# Altium integrated library ECE295-Capacitors-TH.IntLib: 48 symbols
Pins are listed as number, name and electrical type; pins without a type are passive.

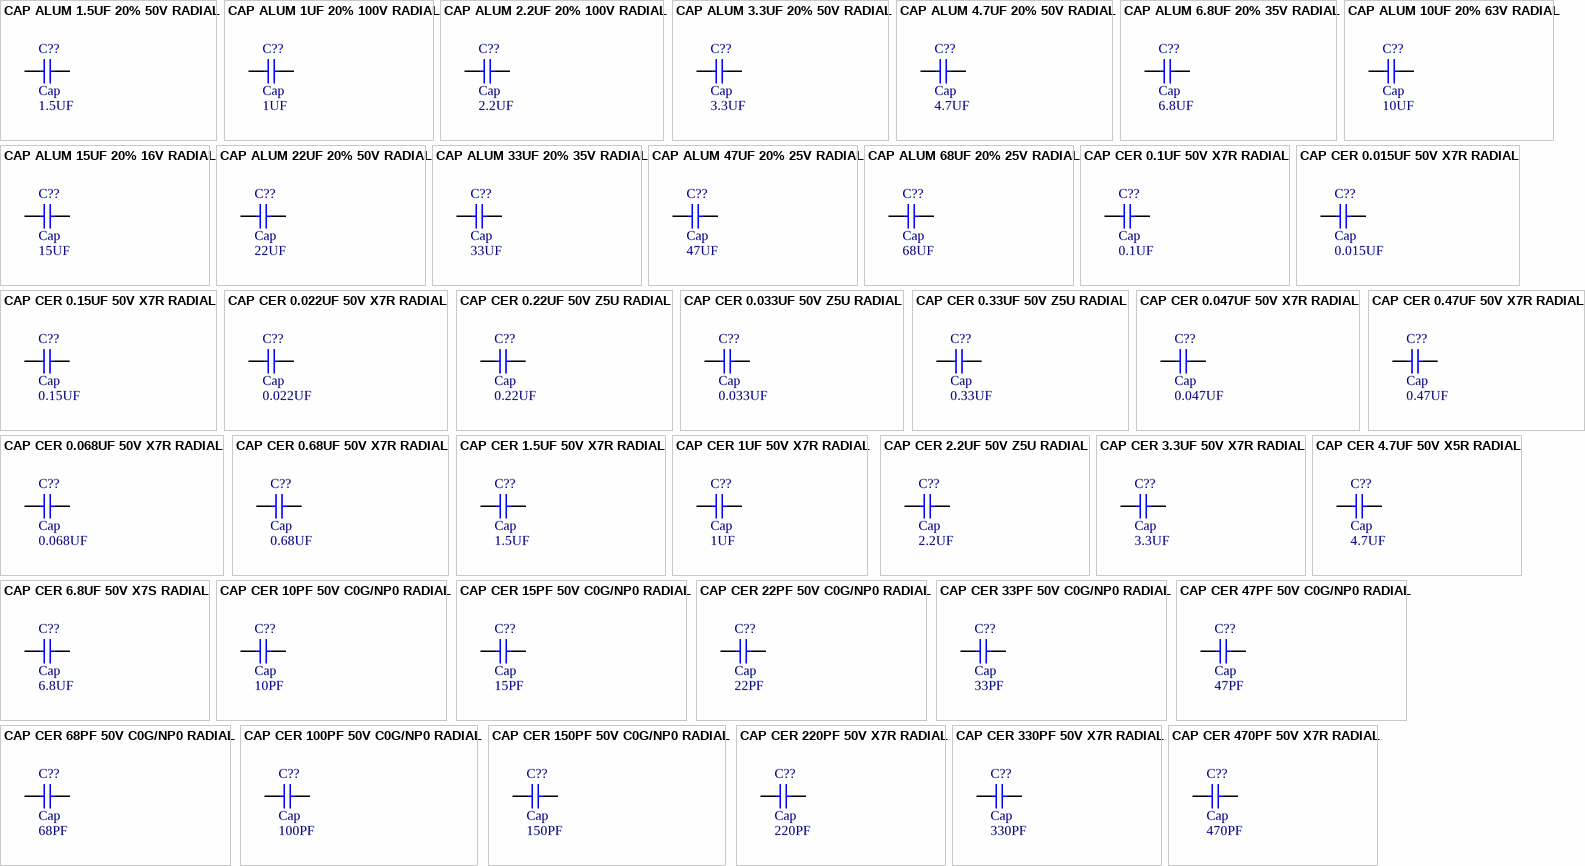
[diagram p0: symbols CAP ALUM 1.5UF 20% 50V RADIAL to CAP CER 470PF 50V X7R RADIAL]

## CAP ALUM 1.5UF 20% 50V RADIAL
designator C??, comment Cap  value 1.5UF
Capacitor; Manufacturer Part Number: EEA-GA1H1R5H; Designator: C?; Voltage Rating: 50V; Published: 8-Jun-2000; LatestRevisionDate: 17-Jul-2002; LatestRevisionNote: Re-released for DXP Platform.; Publisher: Altium Limited
simulation model CAP (Capacitor)
signal-integrity model Cap
footprint RADIAL-0.1
pins: 1, 2

## CAP ALUM 1UF 20% 100V RADIAL
designator C??, comment Cap  value 1UF
Capacitor; Manufacturer Part Number: ESE105M100AC3EA; Designator: C?; Voltage Rating: 100V; Published: 8-Jun-2000; LatestRevisionDate: 17-Jul-2002; LatestRevisionNote: Re-released for DXP Platform.; Publisher: Altium Limited
simulation model CAP (Capacitor)
signal-integrity model Cap
footprint RADIAL-0.1
pins: 1, 2

## CAP ALUM 2.2UF 20% 100V RADIAL
designator C??, comment Cap  value 2.2UF
Capacitor; Manufacturer Part Number: ESK225M100AC3AA; Designator: C?; Voltage Rating: 100V; Published: 8-Jun-2000; LatestRevisionDate: 17-Jul-2002; LatestRevisionNote: Re-released for DXP Platform.; Publisher: Altium Limited
simulation model CAP (Capacitor)
signal-integrity model Cap
footprint RADIAL-0.1
pins: 1, 2

## CAP ALUM 3.3UF 20% 50V RADIAL
designator C??, comment Cap  value 3.3UF
Capacitor; Manufacturer Part Number: ESK335M050AC3AA; Designator: C?; Voltage Rating: 50V; Published: 8-Jun-2000; LatestRevisionDate: 17-Jul-2002; LatestRevisionNote: Re-released for DXP Platform.; Publisher: Altium Limited
simulation model CAP (Capacitor)
signal-integrity model Cap
footprint RADIAL-0.1
pins: 1, 2

## CAP ALUM 4.7UF 20% 50V RADIAL
designator C??, comment Cap  value 4.7UF
Capacitor; Manufacturer Part Number: ESH475M050AC3AA; Designator: C?; Voltage Rating: 50V; Published: 8-Jun-2000; LatestRevisionDate: 17-Jul-2002; LatestRevisionNote: Re-released for DXP Platform.; Publisher: Altium Limited
simulation model CAP (Capacitor)
signal-integrity model Cap
footprint RADIAL-0.1
pins: 1, 2

## CAP ALUM 6.8UF 20% 35V RADIAL
designator C??, comment Cap  value 6.8UF
Capacitor; Manufacturer Part Number: EEA-GA1V6R8H; Designator: C?; Voltage Rating: 35V; Published: 8-Jun-2000; LatestRevisionDate: 17-Jul-2002; LatestRevisionNote: Re-released for DXP Platform.; Publisher: Altium Limited
simulation model CAP (Capacitor)
signal-integrity model Cap
footprint RADIAL-0.1
pins: 1, 2

## CAP ALUM 10UF 20% 63V RADIAL
designator C??, comment Cap  value 10UF
Capacitor; Manufacturer Part Number: ESK106M063AC3FA; Designator: C?; Voltage Rating: 63V; Published: 8-Jun-2000; LatestRevisionDate: 17-Jul-2002; LatestRevisionNote: Re-released for DXP Platform.; Publisher: Altium Limited
simulation model CAP (Capacitor)
signal-integrity model Cap
footprint RADIAL-0.1
pins: 1, 2

## CAP ALUM 15UF 20% 16V RADIAL
designator C??, comment Cap  value 15UF
Capacitor; Manufacturer Part Number: EEA-GA1C150B; Designator: C?; Voltage Rating: 16V; Published: 8-Jun-2000; LatestRevisionDate: 17-Jul-2002; LatestRevisionNote: Re-released for DXP Platform.; Publisher: Altium Limited
simulation model CAP (Capacitor)
signal-integrity model Cap
footprint RADIAL-0.1
pins: 1, 2

## CAP ALUM 22UF 20% 50V RADIAL
designator C??, comment Cap  value 22UF
Capacitor; Manufacturer Part Number: ESK226M050AC3FA; Designator: C?; Voltage Rating: 50V; Published: 8-Jun-2000; LatestRevisionDate: 17-Jul-2002; LatestRevisionNote: Re-released for DXP Platform.; Publisher: Altium Limited
simulation model CAP (Capacitor)
signal-integrity model Cap
footprint RADIAL-0.1
pins: 1, 2

## CAP ALUM 33UF 20% 35V RADIAL
designator C??, comment Cap  value 33UF
Capacitor; Manufacturer Part Number: EEU-FR1V330B; Designator: C?; Voltage Rating: 35V; Published: 8-Jun-2000; LatestRevisionDate: 17-Jul-2002; LatestRevisionNote: Re-released for DXP Platform.; Publisher: Altium Limited
simulation model CAP (Capacitor)
signal-integrity model Cap
footprint RADIAL-0.1
pins: 1, 2

## CAP ALUM 47UF 20% 25V RADIAL
designator C??, comment Cap  value 47UF
Capacitor; Manufacturer Part Number: EEU-FR1E470B; Designator: C?; Voltage Rating: 25V; Published: 8-Jun-2000; LatestRevisionDate: 17-Jul-2002; LatestRevisionNote: Re-released for DXP Platform.; Publisher: Altium Limited
simulation model CAP (Capacitor)
signal-integrity model Cap
footprint RADIAL-0.1
pins: 1, 2

## CAP ALUM 68UF 20% 25V RADIAL
designator C??, comment Cap  value 68UF
Capacitor; Manufacturer Part Number: EEU-FR1E680; Designator: C?; Voltage Rating: 25V; Published: 8-Jun-2000; LatestRevisionDate: 17-Jul-2002; LatestRevisionNote: Re-released for DXP Platform.; Publisher: Altium Limited
simulation model CAP (Capacitor)
signal-integrity model Cap
footprint RADIAL-0.1
pins: 1, 2

## CAP CER 0.1UF 50V X7R RADIAL
designator C??, comment Cap  value 0.1UF
Capacitor; Manufacturer Part Number: K104M15X7RF5TH5; Designator: C?; Voltage Rating: 50V; Published: 8-Jun-2000; LatestRevisionDate: 17-Jul-2002; LatestRevisionNote: Re-released for DXP Platform.; Publisher: Altium Limited
simulation model CAP (Capacitor)
signal-integrity model Cap
footprint RADIAL-0.1
pins: 1, 2

## CAP CER 0.015UF 50V X7R RADIAL
designator C??, comment Cap  value 0.015UF
Capacitor; Manufacturer Part Number: C320C153K5R5TA; Designator: C?; Voltage Rating: 50V; Published: 8-Jun-2000; LatestRevisionDate: 17-Jul-2002; LatestRevisionNote: Re-released for DXP Platform.; Publisher: Altium Limited
simulation model CAP (Capacitor)
signal-integrity model Cap
footprint RADIAL-0.1
pins: 1, 2

## CAP CER 0.15UF 50V X7R RADIAL
designator C??, comment Cap  value 0.15UF
Capacitor; Manufacturer Part Number: C320C154K5R5TA; Designator: C?; Voltage Rating: 50V; Published: 8-Jun-2000; LatestRevisionDate: 17-Jul-2002; LatestRevisionNote: Re-released for DXP Platform.; Publisher: Altium Limited
simulation model CAP (Capacitor)
signal-integrity model Cap
footprint RADIAL-0.1
pins: 1, 2

## CAP CER 0.022UF 50V X7R RADIAL
designator C??, comment Cap  value 0.022UF
Capacitor; Manufacturer Part Number: C315C223K5R5TA7303; Designator: C?; Voltage Rating: 50V; Published: 8-Jun-2000; LatestRevisionDate: 17-Jul-2002; LatestRevisionNote: Re-released for DXP Platform.; Publisher: Altium Limited
simulation model CAP (Capacitor)
signal-integrity model Cap
footprint RADIAL-0.1
pins: 1, 2

## CAP CER 0.22UF 50V Z5U RADIAL
designator C??, comment Cap  value 0.22UF
Capacitor; Manufacturer Part Number: C320C224M5U5TA; Designator: C?; Voltage Rating: 50V; Published: 8-Jun-2000; LatestRevisionDate: 17-Jul-2002; LatestRevisionNote: Re-released for DXP Platform.; Publisher: Altium Limited
simulation model CAP (Capacitor)
signal-integrity model Cap
footprint RADIAL-0.1
pins: 1, 2

## CAP CER 0.033UF 50V Z5U RADIAL
designator C??, comment Cap  value 0.033UF
Capacitor; Manufacturer Part Number: C315C333M5U5TA; Designator: C?; Voltage Rating: 50V; Published: 8-Jun-2000; LatestRevisionDate: 17-Jul-2002; LatestRevisionNote: Re-released for DXP Platform.; Publisher: Altium Limited
simulation model CAP (Capacitor)
signal-integrity model Cap
footprint RADIAL-0.1
pins: 1, 2

## CAP CER 0.33UF 50V Z5U RADIAL
designator C??, comment Cap  value 0.33UF
Capacitor; Manufacturer Part Number: C320C334M5U5TA; Designator: C?; Voltage Rating: 50V; Published: 8-Jun-2000; LatestRevisionDate: 17-Jul-2002; LatestRevisionNote: Re-released for DXP Platform.; Publisher: Altium Limited
simulation model CAP (Capacitor)
signal-integrity model Cap
footprint RADIAL-0.1
pins: 1, 2

## CAP CER 0.047UF 50V X7R RADIAL
designator C??, comment Cap  value 0.047UF
Capacitor; Manufacturer Part Number: C320C473K5R5TA; Designator: C?; Voltage Rating: 50V; Published: 8-Jun-2000; LatestRevisionDate: 17-Jul-2002; LatestRevisionNote: Re-released for DXP Platform.; Publisher: Altium Limited
simulation model CAP (Capacitor)
signal-integrity model Cap
footprint RADIAL-0.1
pins: 1, 2

## CAP CER 0.47UF 50V X7R RADIAL
designator C??, comment Cap  value 0.47UF
Capacitor; Manufacturer Part Number: C315C474K5R5TA7303; Designator: C?; Voltage Rating: 50V; Published: 8-Jun-2000; LatestRevisionDate: 17-Jul-2002; LatestRevisionNote: Re-released for DXP Platform.; Publisher: Altium Limited
simulation model CAP (Capacitor)
signal-integrity model Cap
footprint RADIAL-0.1
pins: 1, 2

## CAP CER 0.068UF 50V X7R RADIAL
designator C??, comment Cap  value 0.068UF
Capacitor; Manufacturer Part Number: C320C683K5R5TA; Designator: C?; Voltage Rating: 50V; Published: 8-Jun-2000; LatestRevisionDate: 17-Jul-2002; LatestRevisionNote: Re-released for DXP Platform.; Publisher: Altium Limited
simulation model CAP (Capacitor)
signal-integrity model Cap
footprint RADIAL-0.1
pins: 1, 2

## CAP CER 0.68UF 50V X7R RADIAL
designator C??, comment Cap  value 0.68UF
Capacitor; Manufacturer Part Number: FA24X7R1H684KRU06; Designator: C?; Voltage Rating: 50V; Published: 8-Jun-2000; LatestRevisionDate: 17-Jul-2002; LatestRevisionNote: Re-released for DXP Platform.; Publisher: Altium Limited
simulation model CAP (Capacitor)
signal-integrity model Cap
footprint RADIAL-0.1
pins: 1, 2

## CAP CER 1.5UF 50V X7R RADIAL
designator C??, comment Cap  value 1.5UF
Capacitor; Manufacturer Part Number: FA24X7R1H155KRU06; Designator: C?; Voltage Rating: 50V; Published: 8-Jun-2000; LatestRevisionDate: 17-Jul-2002; LatestRevisionNote: Re-released for DXP Platform.; Publisher: Altium Limited
simulation model CAP (Capacitor)
signal-integrity model Cap
footprint RADIAL-0.1
pins: 1, 2

## CAP CER 1UF 50V X7R RADIAL
designator C??, comment Cap  value 1UF
Capacitor; Manufacturer Part Number: C333C105K5R5TA7301; Designator: C?; Voltage Rating: 50V; Published: 8-Jun-2000; LatestRevisionDate: 17-Jul-2002; LatestRevisionNote: Re-released for DXP Platform.; Publisher: Altium Limited
simulation model CAP (Capacitor)
signal-integrity model Cap
footprint RADIAL-0.1
pins: 1, 2

## CAP CER 2.2UF 50V Z5U RADIAL
designator C??, comment Cap  value 2.2UF
Capacitor; Manufacturer Part Number: C330C225M5U5TA7303; Designator: C?; Voltage Rating: 50V; Published: 8-Jun-2000; LatestRevisionDate: 17-Jul-2002; LatestRevisionNote: Re-released for DXP Platform.; Publisher: Altium Limited
simulation model CAP (Capacitor)
signal-integrity model Cap
footprint RADIAL-0.1
pins: 1, 2

## CAP CER 3.3UF 50V X7R RADIAL
designator C??, comment Cap  value 3.3UF
Capacitor; Manufacturer Part Number: RCER71H335K3K1H03B; Designator: C?; Voltage Rating: 50V; Published: 8-Jun-2000; LatestRevisionDate: 17-Jul-2002; LatestRevisionNote: Re-released for DXP Platform.; Publisher: Altium Limited
simulation model CAP (Capacitor)
signal-integrity model Cap
footprint RADIAL-0.1
pins: 1, 2

## CAP CER 4.7UF 50V X5R RADIAL
designator C??, comment Cap  value 4.7UF
Capacitor; Manufacturer Part Number: FG24X5R1H475KRT06; Designator: C?; Voltage Rating: 50V; Published: 8-Jun-2000; LatestRevisionDate: 17-Jul-2002; LatestRevisionNote: Re-released for DXP Platform.; Publisher: Altium Limited
simulation model CAP (Capacitor)
signal-integrity model Cap
footprint RADIAL-0.1
pins: 1, 2

## CAP CER 6.8UF 50V X7S RADIAL
designator C??, comment Cap  value 6.8UF
Capacitor; Manufacturer Part Number: FA11X7S1H685KRU06; Designator: C?; Voltage Rating: 50V; Published: 8-Jun-2000; LatestRevisionDate: 17-Jul-2002; LatestRevisionNote: Re-released for DXP Platform.; Publisher: Altium Limited
simulation model CAP (Capacitor)
signal-integrity model Cap
footprint RADIAL-0.1
pins: 1, 2

## CAP CER 10PF 50V C0G/NP0 RADIAL
designator C??, comment Cap  value 10PF
Capacitor; Manufacturer Part Number: K100J15C0GF5TL2; Designator: C?; Voltage Rating: 50V; Published: 8-Jun-2000; LatestRevisionDate: 17-Jul-2002; LatestRevisionNote: Re-released for DXP Platform.; Publisher: Altium Limited
simulation model CAP (Capacitor)
signal-integrity model Cap
footprint RADIAL-0.1
pins: 1, 2

## CAP CER 15PF 50V C0G/NP0 RADIAL
designator C??, comment Cap  value 15PF
Capacitor; Manufacturer Part Number: K150J15C0GF5TL2; Designator: C?; Voltage Rating: 50V; Published: 8-Jun-2000; LatestRevisionDate: 17-Jul-2002; LatestRevisionNote: Re-released for DXP Platform.; Publisher: Altium Limited
simulation model CAP (Capacitor)
signal-integrity model Cap
footprint RADIAL-0.1
pins: 1, 2

## CAP CER 22PF 50V C0G/NP0 RADIAL
designator C??, comment Cap  value 22PF
Capacitor; Manufacturer Part Number: K220J15C0GF5TL2; Designator: C?; Voltage Rating: 50V; Published: 8-Jun-2000; LatestRevisionDate: 17-Jul-2002; LatestRevisionNote: Re-released for DXP Platform.; Publisher: Altium Limited
simulation model CAP (Capacitor)
signal-integrity model Cap
footprint RADIAL-0.1
pins: 1, 2

## CAP CER 33PF 50V C0G/NP0 RADIAL
designator C??, comment Cap  value 33PF
Capacitor; Manufacturer Part Number: K330J15C0GF5TH5; Designator: C?; Voltage Rating: 50V; Published: 8-Jun-2000; LatestRevisionDate: 17-Jul-2002; LatestRevisionNote: Re-released for DXP Platform.; Publisher: Altium Limited
simulation model CAP (Capacitor)
signal-integrity model Cap
footprint RADIAL-0.1
pins: 1, 2

## CAP CER 47PF 50V C0G/NP0 RADIAL
designator C??, comment Cap  value 47PF
Capacitor; Manufacturer Part Number: K470J15C0GF5TL2; Designator: C?; Voltage Rating: 50V; Published: 8-Jun-2000; LatestRevisionDate: 17-Jul-2002; LatestRevisionNote: Re-released for DXP Platform.; Publisher: Altium Limited
simulation model CAP (Capacitor)
signal-integrity model Cap
footprint RADIAL-0.1
pins: 1, 2

## CAP CER 68PF 50V C0G/NP0 RADIAL
designator C??, comment Cap  value 68PF
Capacitor; Manufacturer Part Number: K680J15C0GF5TL2; Designator: C?; Voltage Rating: 50V; Published: 8-Jun-2000; LatestRevisionDate: 17-Jul-2002; LatestRevisionNote: Re-released for DXP Platform.; Publisher: Altium Limited
simulation model CAP (Capacitor)
signal-integrity model Cap
footprint RADIAL-0.1
pins: 1, 2

## CAP CER 100PF 50V C0G/NP0 RADIAL
designator C??, comment Cap  value 100PF
Capacitor; Manufacturer Part Number: K101K15C0GF53L2; Designator: C?; Voltage Rating: 50V; Published: 8-Jun-2000; LatestRevisionDate: 17-Jul-2002; LatestRevisionNote: Re-released for DXP Platform.; Publisher: Altium Limited
simulation model CAP (Capacitor)
signal-integrity model Cap
footprint RADIAL-0.1
pins: 1, 2

## CAP CER 150PF 50V C0G/NP0 RADIAL
designator C??, comment Cap  value 150PF
Capacitor; Manufacturer Part Number: K151J15C0GF53L2; Designator: C?; Voltage Rating: 50V; Published: 8-Jun-2000; LatestRevisionDate: 17-Jul-2002; LatestRevisionNote: Re-released for DXP Platform.; Publisher: Altium Limited
simulation model CAP (Capacitor)
signal-integrity model Cap
footprint RADIAL-0.1
pins: 1, 2

## CAP CER 220PF 50V X7R RADIAL
designator C??, comment Cap  value 220PF
Capacitor; Manufacturer Part Number: K221K15X7RF5TH5; Designator: C?; Voltage Rating: 50V; Published: 8-Jun-2000; LatestRevisionDate: 17-Jul-2002; LatestRevisionNote: Re-released for DXP Platform.; Publisher: Altium Limited
simulation model CAP (Capacitor)
signal-integrity model Cap
footprint RADIAL-0.1
pins: 1, 2

## CAP CER 330PF 50V X7R RADIAL
designator C??, comment Cap  value 330PF
Capacitor; Manufacturer Part Number: K331K15X7RF53L2; Designator: C?; Voltage Rating: 50V; Published: 8-Jun-2000; LatestRevisionDate: 17-Jul-2002; LatestRevisionNote: Re-released for DXP Platform.; Publisher: Altium Limited
simulation model CAP (Capacitor)
signal-integrity model Cap
footprint RADIAL-0.1
pins: 1, 2

## CAP CER 470PF 50V X7R RADIAL
designator C??, comment Cap  value 470PF
Capacitor; Manufacturer Part Number: K471K15X7RF53L2; Designator: C?; Voltage Rating: 50V; Published: 8-Jun-2000; LatestRevisionDate: 17-Jul-2002; LatestRevisionNote: Re-released for DXP Platform.; Publisher: Altium Limited
simulation model CAP (Capacitor)
signal-integrity model Cap
footprint RADIAL-0.1
pins: 1, 2

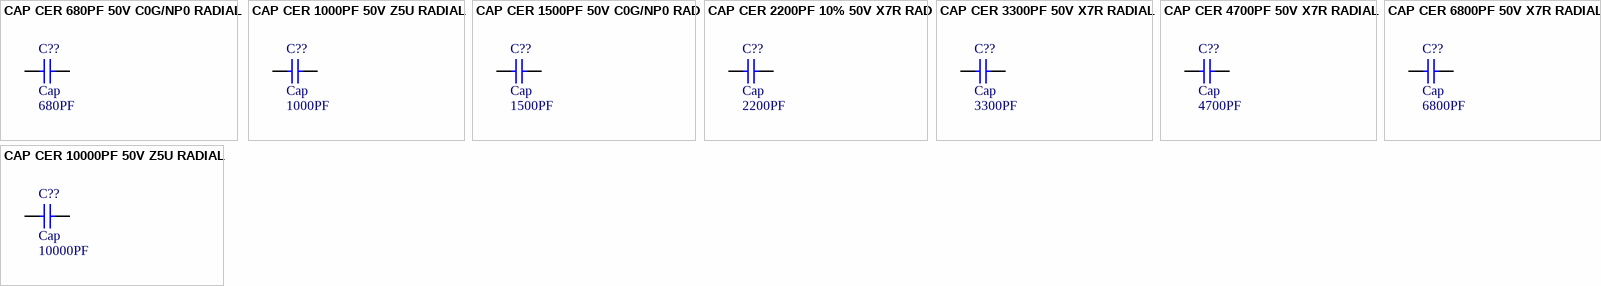
[diagram p1: symbols CAP CER 680PF 50V C0G/NP0 RADIAL to CAP CER 10000PF 50V Z5U RADIAL]

## CAP CER 680PF 50V C0G/NP0 RADIAL
designator C??, comment Cap  value 680PF
Capacitor; Manufacturer Part Number: K681J15C0GF53L2; Designator: C?; Voltage Rating: 50V; Published: 8-Jun-2000; LatestRevisionDate: 17-Jul-2002; LatestRevisionNote: Re-released for DXP Platform.; Publisher: Altium Limited
simulation model CAP (Capacitor)
signal-integrity model Cap
footprint RADIAL-0.1
pins: 1, 2

## CAP CER 1000PF 50V Z5U RADIAL
designator C??, comment Cap  value 1000PF
Capacitor; Manufacturer Part Number: C315C102M5U5TA; Designator: C?; Voltage Rating: 50V; Published: 8-Jun-2000; LatestRevisionDate: 17-Jul-2002; LatestRevisionNote: Re-released for DXP Platform.; Publisher: Altium Limited
simulation model CAP (Capacitor)
signal-integrity model Cap
footprint RADIAL-0.1
pins: 1, 2

## CAP CER 1500PF 50V C0G/NP0 RAD
designator C??, comment Cap  value 1500PF
Capacitor; Manufacturer Part Number: K152J15C0GF5TL2; Designator: C?; Voltage Rating: 50V; Published: 8-Jun-2000; LatestRevisionDate: 17-Jul-2002; LatestRevisionNote: Re-released for DXP Platform.; Publisher: Altium Limited
simulation model CAP (Capacitor)
signal-integrity model Cap
footprint RADIAL-0.1
pins: 1, 2

## CAP CER 2200PF 10% 50V X7R RAD
designator C??, comment Cap  value 2200PF
Capacitor; Manufacturer Part Number: C320C222K5R5TA; Designator: C?; Voltage Rating: 50V; Published: 8-Jun-2000; LatestRevisionDate: 17-Jul-2002; LatestRevisionNote: Re-released for DXP Platform.; Publisher: Altium Limited
simulation model CAP (Capacitor)
signal-integrity model Cap
footprint RADIAL-0.1
pins: 1, 2

## CAP CER 3300PF 50V X7R RADIAL
designator C??, comment Cap  value 3300PF
Capacitor; Manufacturer Part Number: K332K15X7RF5TL2; Designator: C?; Voltage Rating: 50V; Published: 8-Jun-2000; LatestRevisionDate: 17-Jul-2002; LatestRevisionNote: Re-released for DXP Platform.; Publisher: Altium Limited
simulation model CAP (Capacitor)
signal-integrity model Cap
footprint RADIAL-0.1
pins: 1, 2

## CAP CER 4700PF 50V X7R RADIAL
designator C??, comment Cap  value 4700PF
Capacitor; Manufacturer Part Number: C315C472K5R5TA; Designator: C?; Voltage Rating: 50V; Published: 8-Jun-2000; LatestRevisionDate: 17-Jul-2002; LatestRevisionNote: Re-released for DXP Platform.; Publisher: Altium Limited
simulation model CAP (Capacitor)
signal-integrity model Cap
footprint RADIAL-0.1
pins: 1, 2

## CAP CER 6800PF 50V X7R RADIAL
designator C??, comment Cap  value 6800PF
Capacitor; Manufacturer Part Number: SR155C682KARTR1; Designator: C?; Voltage Rating: 50V; Published: 8-Jun-2000; LatestRevisionDate: 17-Jul-2002; LatestRevisionNote: Re-released for DXP Platform.; Publisher: Altium Limited
simulation model CAP (Capacitor)
signal-integrity model Cap
footprint RADIAL-0.1
pins: 1, 2

## CAP CER 10000PF 50V Z5U RADIAL
designator C??, comment Cap  value 10000PF
Capacitor; Manufacturer Part Number: C317C103M5U5TA; Designator: C?; Voltage Rating: 50V; Published: 8-Jun-2000; LatestRevisionDate: 17-Jul-2002; LatestRevisionNote: Re-released for DXP Platform.; Publisher: Altium Limited
simulation model CAP (Capacitor)
signal-integrity model Cap
footprint RADIAL-0.1
pins: 1, 2